# EAGLE library part AS-ITM-00263 (library tinycircuits)
IC FLASH 128MBIT 133MHZ 8WSON
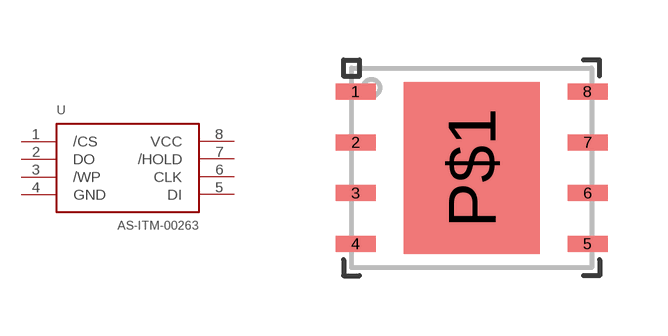
[diagram p104: symbol with the pads of 8-WSON-6X5; footprint 8-WSON-6X5]

Designator prefix U

## AS-ITM-00263 (PARTNO: AS-ITM-00263; VALUE: W25Q128JVPIM)  [8-WSON-6X5]
1  /CS
2  DO
3  /WP
4  GND
5  DI
6  CLK
7  /HOLD
8  VCC

## Footprint 8-WSON-6X5 (pad centres in mm)
smd 1 x 0.4: 1 -2.9,1.905; 2 -2.9,0.635; 3 -2.9,-0.635; 4 -2.9,-1.905; 5 2.9,-1.905; 6 2.9,-0.635; 7 2.9,0.635; 8 2.9,1.905
smd 3.4 x 4.3: P$1 0,0